# EAGLE library part PCM3168APAP (library pcm3168)
6-In/8-Out Audio Codec
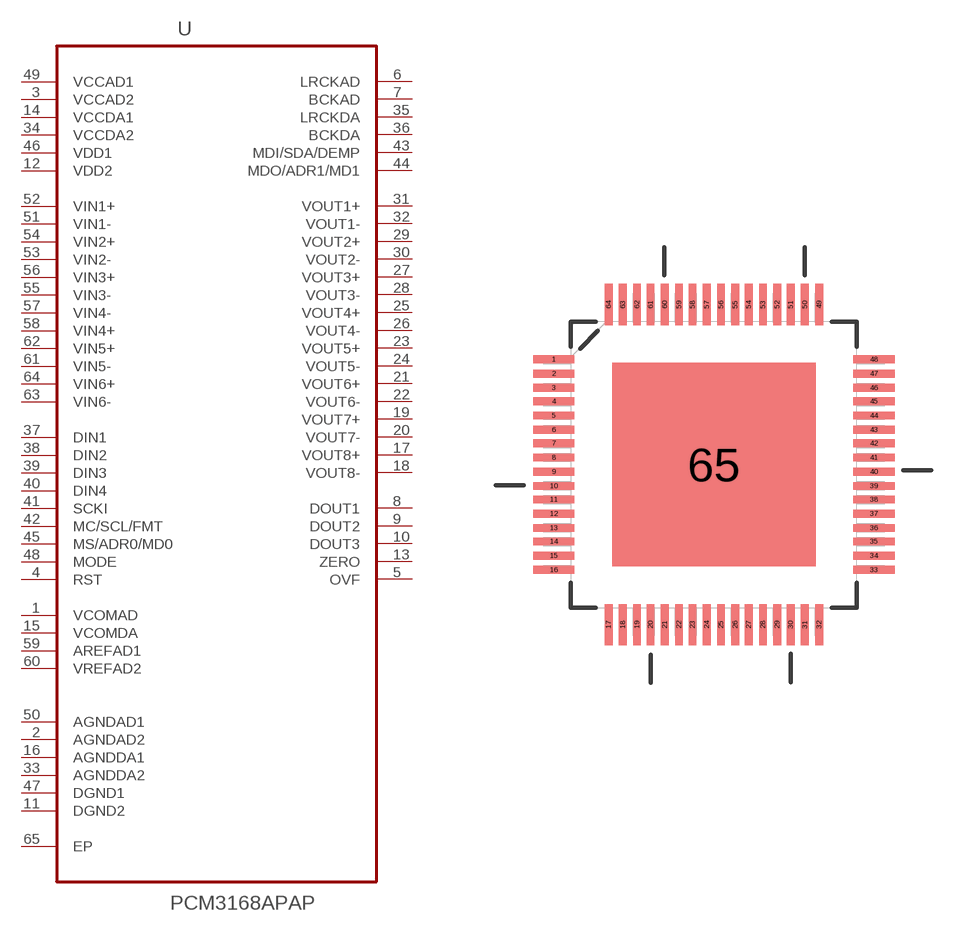
[diagram p0: symbol with the pads of QFP50P1200X1200X120-65N; footprint QFP50P1200X1200X120-65N]

Designator prefix U

## PCM3168APAP (MPN: PCM3168APAP; OC_FARNELL: 1689419; OC_NEWARK: 33P9825; PACKAGE: HTQFP-64; SUPPLIER: Texas Instruments)  [QFP50P1200X1200X120-65N]
1  VCOMAD  pas
2  AGNDAD2  pas
3  VCCAD2  pwr
4  RST  in
5  OVF  out
6  LRCKAD
7  BCKAD
8  DOUT1  out
9  DOUT2  out
10  DOUT3  out
11  DGND2  pas
12  VDD2  pwr
13  ZERO  out
14  VCCDA1  pwr
15  VCOMDA  pas
16  AGNDDA1  pas
17  VOUT8+  out
18  VOUT8-  out
19  VOUT7+  out
20  VOUT7-  out
21  VOUT6+  out
22  VOUT6-  out
23  VOUT5+  out
24  VOUT5-  out
25  VOUT4+  out
26  VOUT4-  out
27  VOUT3+  out
28  VOUT3-  out
29  VOUT2+  out
30  VOUT2-  out
31  VOUT1+  out
32  VOUT1-  out
33  AGNDDA2  pas
34  VCCDA2  pwr
35  LRCKDA
36  BCKDA
37  DIN1  in
38  DIN2  in
39  DIN3  in
40  DIN4  in
41  SCKI  in
42  MC/SCL/FMT  in
43  MDI/SDA/DEMP
44  MDO/ADR1/MD1
45  MS/ADR0/MD0  in
46  VDD1  pwr
47  DGND1  pas
48  MODE  in
49  VCCAD1  pwr
50  AGNDAD1  pas
51  VIN1-  in
52  VIN1+  in
53  VIN2-  in
54  VIN2+  in
55  VIN3-  in
56  VIN3+  in
57  VIN4-  in
58  VIN4+  in
59  AREFAD1  pas
60  VREFAD2  pas
61  VIN5-  in
62  VIN5+  in
63  VIN6-  in
64  VIN6+  in
65  EP  pas

## Footprint QFP50P1200X1200X120-65N (pad centres in mm)
smd 1.473 x 0.279: 1 -5.715,3.759; 2 -5.715,3.251; 3 -5.715,2.743; 4 -5.715,2.261; 5 -5.715,1.753; 6 -5.715,1.245; 7 -5.715,0.762; 8 -5.715,0.254; 9 -5.715,-0.254; 10 -5.715,-0.762; 11 -5.715,-1.245; 12 -5.715,-1.753; 13 -5.715,-2.261; 14 -5.715,-2.743; 15 -5.715,-3.251; 16 -5.715,-3.759; 33 5.715,-3.759; 34 5.715,-3.251; 35 5.715,-2.743; 36 5.715,-2.261; 37 5.715,-1.753; 38 5.715,-1.245; 39 5.715,-0.762; 40 5.715,-0.254; 41 5.715,0.254; 42 5.715,0.762; 43 5.715,1.245; 44 5.715,1.753; 45 5.715,2.261; 46 5.715,2.743; 47 5.715,3.251; 48 5.715,3.759
smd 0.279 x 1.473: 17 -3.759,-5.715; 18 -3.251,-5.715; 19 -2.743,-5.715; 20 -2.261,-5.715; 21 -1.753,-5.715; 22 -1.245,-5.715; 23 -0.762,-5.715; 24 -0.254,-5.715; 25 0.254,-5.715; 26 0.762,-5.715; 27 1.245,-5.715; 28 1.753,-5.715; 29 2.261,-5.715; 30 2.743,-5.715; 31 3.251,-5.715; 32 3.759,-5.715; 49 3.759,5.715; 50 3.251,5.715; 51 2.743,5.715; 52 2.261,5.715; 53 1.753,5.715; 54 1.245,5.715; 55 0.762,5.715; 56 0.254,5.715; 57 -0.254,5.715; 58 -0.762,5.715; 59 -1.245,5.715; 60 -1.753,5.715; 61 -2.261,5.715; 62 -2.743,5.715; 63 -3.251,5.715; 64 -3.759,5.715
smd 7.264 x 7.264: 65 0,0